# EAGLE library part CRAZYREMOTE_USBLC6-2 (library CrazyRemote)
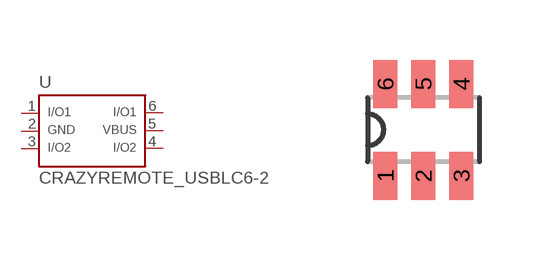
[diagram p7: symbol with the pads of CRAZYREMOTE_SOT-23-6L; footprint CRAZYREMOTE_SOT-23-6L]

Designator prefix -

## CRAZYREMOTE_USBLC6-2  [CRAZYREMOTE_SOT-23-6L]
1  P$1
2  P$2
3  P$3
4  P$4
5  P$5
6  P$6

## Footprint CRAZYREMOTE_SOT-23-6L (pad centres in mm)
smd 0.6 x 1.2: 1 -0.95,-1.15; 2 0,-1.15; 3 0.95,-1.15; 4 0.95,1.15; 5 0,1.15; 6 -0.95,1.15